# Altium schematic symbol library 15F2K60S2.SchLib: 1 symbol
Pins are listed as number, name and electrical type; pins without a type are passive.

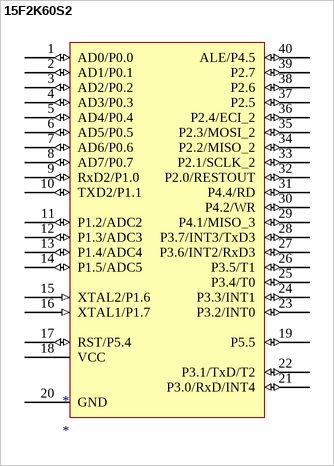
[diagram p0: symbol 15F2K60S2]

## 15F2K60S2
designator *
footprint DIP40
pins: 1 AD0/P0.0 (io), 2 AD1/P0.1 (io), 3 AD2/P0.2 (io), 4 AD3/P0.3 (io), 5 AD4/P0.4 (io), 6 AD5/P0.5 (io), 7 AD6/P0.6 (io), 8 AD7/P0.7 (io), 9 RxD2/P1.0 (io), 10 TXD2/P1.1 (io), 11 P1.2/ADC2 (io), 12 P1.3/ADC3 (io), 13 P1.4/ADC4 (io), 14 P1.5/ADC5 (io), 15 XTAL2/P1.6 (in), 16 XTAL1/P1.7 (in), 17 RST/P5.4 (io), 18 VCC (power), 19 P5.5 (io), 20 GND (power), 21 P3.0/RxD/INT4 (io), 22 P3.1/TxD/T2 (io), 23 P3.2/INT0 (io), 24 P3.3/INT1 (io), 25 P3.4/T0 (io), 26 P3.5/T1 (io), 27 P3.6/INT2/RxD3 (io), 28 P3.7/INT3/TxD3 (io), 29 P4.1/MISO_3 (io), 30 P4.2/WR (io), 31 P4.4/RD (io), 32 P2.0/RESTOUT (io), 33 P2.1/SCLK_2 (io), 34 P2.2/MISO_2 (io), 35 P2.3/MOSI_2 (io), 36 P2.4/ECI_2 (io), 37 P2.5 (io), 38 P2.6 (io), 39 P2.7 (io), 40 ALE/P4.5 (io)